# EAGLE library part MINI-TRAFO (library mini_trafo)
Mini Transformador Encapsulado - Trafo MTE 3/1 https://www.eletrodex.com.br/mini-transformador-encapsulado-3.html Author: leocessel
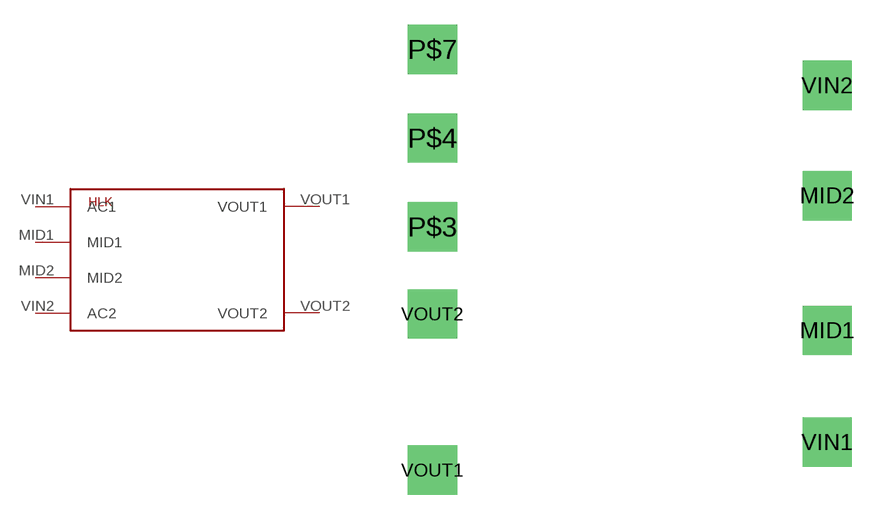
[diagram p0: symbol with the pads of MINI-TRAFO; footprint MINI-TRAFO]

Designator prefix HLK

## MINI-TRAFO3W  [MINI-TRAFO]
MID1  MID1
MID2  MID2
VIN1  AC1
VIN2  AC2
VOUT1  VOUT1
VOUT2  VOUT2

## Footprint MINI-TRAFO (pad centres in mm)
Hi-Link Power Supply HLK-PM01 3W Author: Ahmed Said <https://github.com/AhmedSaid/EAGLELibraries>
drill 1.4 pad 3 square: MID1 11.4,-4.8; MID2 11.4,3.4; P$3 -12.6,1.5; P$4 -12.6,6.9; P$7 -12.6,12.3; VIN1 11.4,-11.6; VIN2 11.4,10.1; VOUT1 -12.6,-13.3; VOUT2 -12.6,-3.8